# EAGLE library part MCP4161 (library Dek)
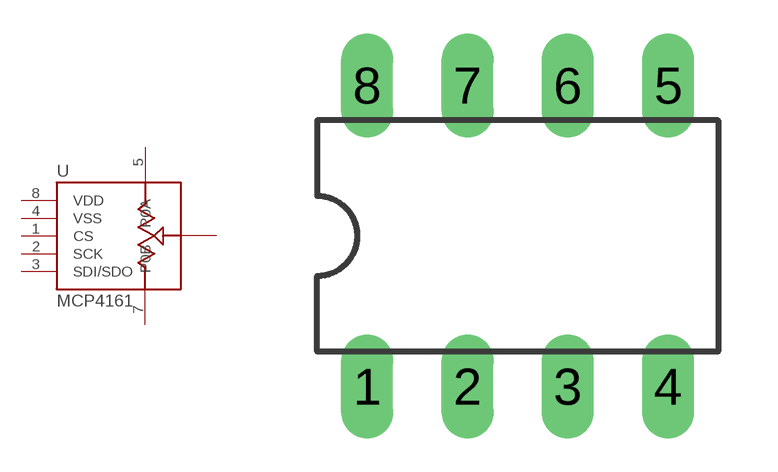
[diagram p1: symbol with the pads of DIL08; footprint DIL08]

Designator prefix -

## MCP416110E/P  [DIL08]
1  CS  in
2  SCK  in
3  SDI/SDO
4  VSS  pwr
5  P0A  pas
6  P0W  pas
7  P0B  pas
8  VDD  pwr

## Footprint DIL08 (pad centres in mm)
Dual In Line Package
drill 0.813 pad 1.27 long: 1 -3.81,-3.81; 2 -1.27,-3.81; 3 1.27,-3.81; 4 3.81,-3.81; 5 3.81,3.81; 6 1.27,3.81; 7 -1.27,3.81; 8 -3.81,3.81